# Altium footprint library PcbLib1.PcbLib: 8 footprints
Each footprint in its own frame and in the unit in brackets; x right, y up, seen from the top. Pads: shape width x height; smd on the part's side, far side on the other; paste and mask are expansions set on the pad; w line width, h text height; cw(c..) or ccw(c..) is an arc to the next point about the centre after c.
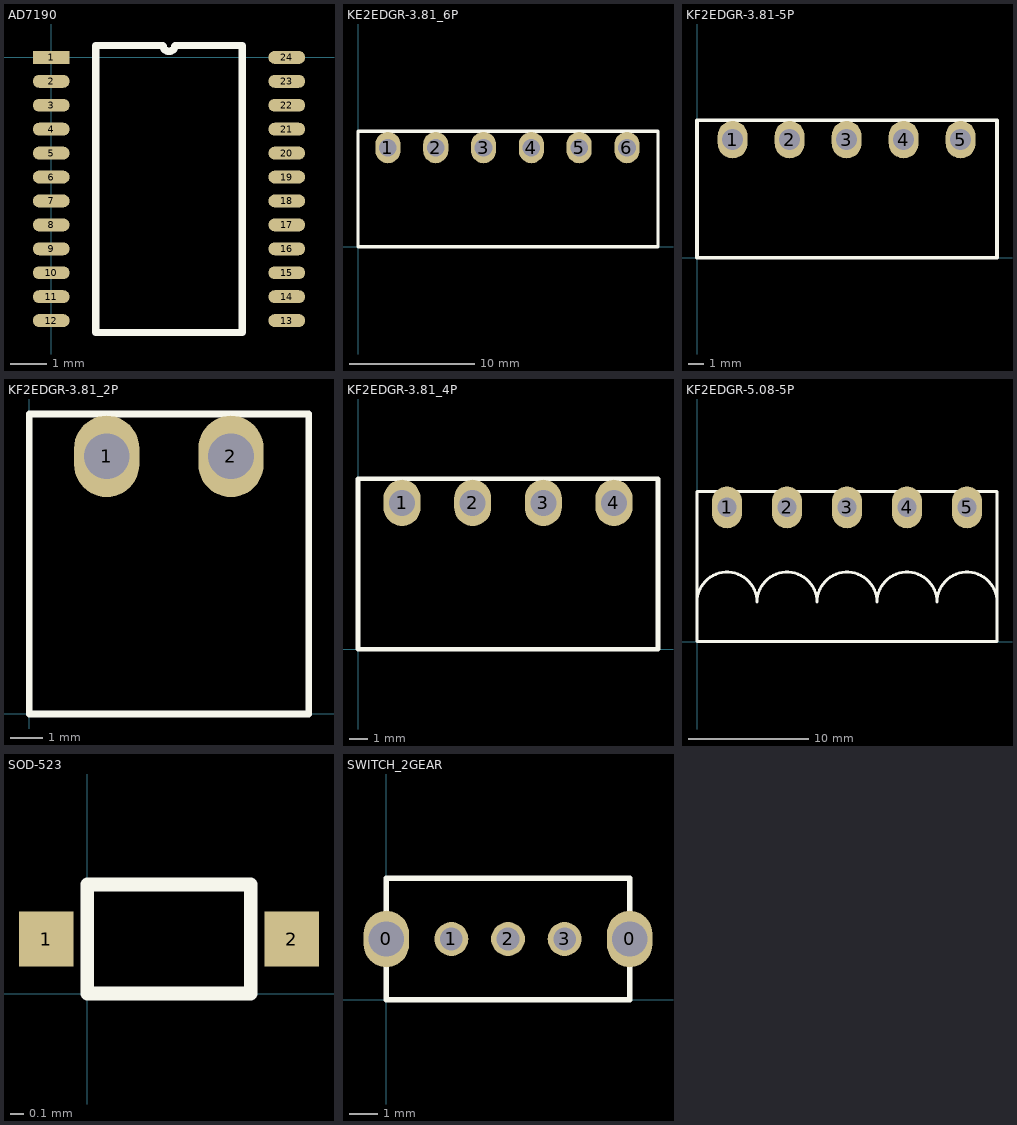
[diagram p0: the footprints below, top view; thin cyan lines are the x and y axes]

## AD7190 [mm]
pads (24):
  rect 1x0.35 smd: 1(0,0)
  oval 1x0.35 smd: 2(0,-0.65) 3(0,-1.3) 4(0,-1.95) 5(0,-2.6) 6(0,-3.25) 7(0,-3.9) 8(0,-4.55) 9(0,-5.2) 10(0,-5.85) 11(0,-6.5) 12(0,-7.15) 13(6.4,-7.15) 14(6.4,-6.5) 15(6.4,-5.85) 16(6.4,-5.2) 17(6.4,-4.55) 18(6.4,-3.9) 19(6.4,-3.25) 20(6.4,-2.6) 21(6.4,-1.95) 22(6.4,-1.3) 23(6.4,-0.65) 24(6.4,0)
Top Overlay:
  lines w0.2: 1.21,-7.475 5.19,-7.475 5.19,0.325 3.362,0.325 cw(c3.2,0.325) 3.037,0.325 1.21,0.325 1.21,-7.475
3D body: height 1.2, standoff 0, extent 1.143,-7.493 5.207,0.381

## KE2EDGR-3.81_6P [mm]
pads (6):
  oval 2x2.5 hole 1.4: 1(2.38,7.9) 2(6.19,7.9) 3(10,7.9) 4(13.81,7.9) 5(17.62,7.9) 6(21.43,7.9)
Top Overlay:
  lines w0.254: 23.86,9.2 0,9.2 0,0 23.9,0 23.9,9.2

## KF2EDGR-3.81-5P [mm]
pads (5):
  oval 2x2.5 hole 1.4: 1(2.38,7.9) 2(6.19,7.9) 3(10,7.9) 4(13.81,7.9) 5(17.62,7.9)
Top Overlay:
  lines w0.254: 0,0 0,9.2 20.05,9.2 20.05,0 0,0

## KF2EDGR-3.81_2P [mm]
pads (2):
  oval 2x2.5 hole 1.4: 1(2.38,7.9) 2(6.19,7.9)
Top Overlay:
  lines w0.2: 0,0 0,9.2 8.58,9.2 8.58,0 0,0

## KF2EDGR-3.81_4P [mm]
pads (4):
  oval 2x2.5 hole 1.4: 1(2.38,7.9) 2(6.19,7.9) 3(10,7.9) 4(13.81,7.9)
Top Overlay:
  lines w0.254: 0,0 0,9.2 16.19,9.2 16.19,0 0,0

## KF2EDGR-5.08-5P [mm]
pads (5):
  oval 2.5x3.5 hole 1.6: 1(2.5,11.2) 2(7.5,11.2) 3(12.5,11.2) 4(17.5,11.2) 5(22.5,11.2)
Top Overlay:
  lines w0.254: 0,3.3 cw(c2.5,3.3) 5,3.3 cw(c7.5,3.3) 10,3.3 cw(c12.5,3.3) 15,3.3 cw(c17.5,3.3) 20,3.3 cw(c22.5,3.3) 25,3.3 ; 0,0 0,12.5 25,12.5 25,0 0,0

## SOD-523 [mm]
pads (2):
  rect 0.4x0.4 smd: 1(-0.3,0.4) 2(1.5,0.4)
Top Overlay:
  lines w0.1: 0,0 0,0.8 1.2,0.8 1.2,0 0,0

## SWITCH_2GEAR [mm]
pads (5):
  oval 1.6x2 hole 1.25: 0(0,2.15) 0(8.6,2.15)
  round 1.2 hole 0.8: 1(2.3,2.15) 2(4.3,2.15) 3(6.3,2.15)
Top Overlay:
  lines w0.2: 0,0 0,4.3 8.6,4.3 8.6,0 0,0